# EAGLE library part ATMEGA328-1 (library IC_Embedded)
8-bit AVR Microcontroller with 32K Bytes In-System Programmable Flash Datasheet <https://www.mouser.com/pdfdocs/Gravitech_ATMEGA328_datasheet.pdf>
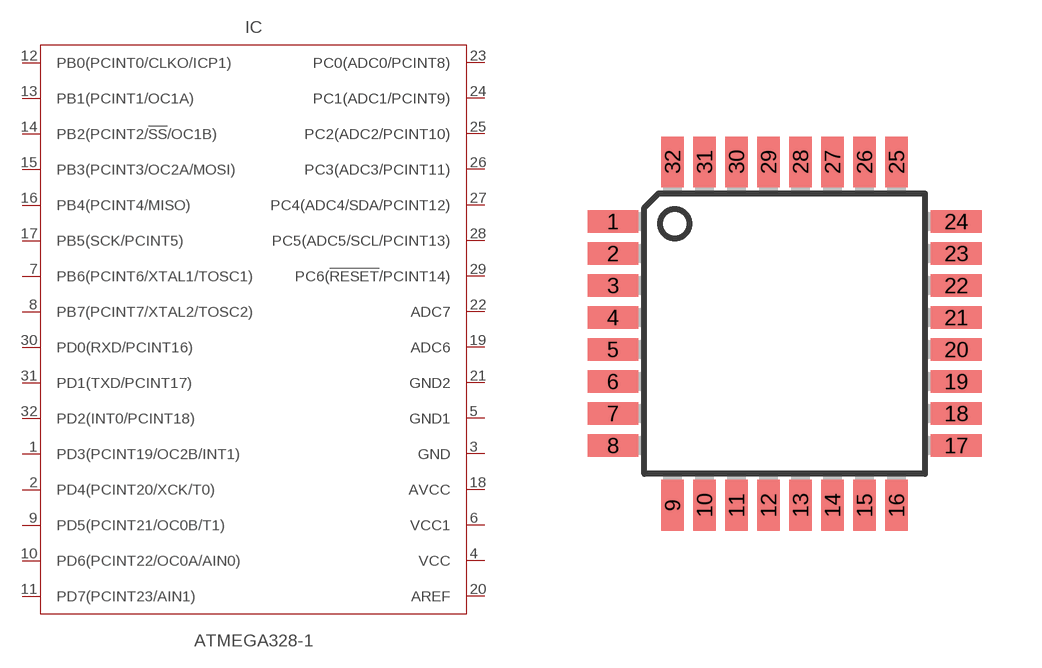
[diagram p9: symbol with the pads of TQFP32-08; footprint TQFP32-08]

Designator prefix IC

## ATMEGA328-1_TQFP (CATEGORY: IC_Embedded; MANUFACTURER: Microchip Technologies; MPN: ATmega328P-AU; OPERATING_TEMP: –40 to +105°C; PART_STATUS: Active; SUB-CATEGORY: Microcontroller; VALUE: ATMEGA328P)  [TQFP32-08]
1  PD3(PCINT19/OC2B/INT1)
2  PD4(PCINT20/XCK/T0)
3  GND  pas
4  VCC  pwr
5  GND1  pas
6  VCC1  pwr
7  PB6(PCINT6/XTAL1/TOSC1)  in
8  PB7(PCINT7/XTAL2/TOSC2)  in
9  PD5(PCINT21/OC0B/T1)
10  PD6(PCINT22/OC0A/AIN0)
11  PD7(PCINT23/AIN1)
12  PB0(PCINT0/CLKO/ICP1)
13  PB1(PCINT1/OC1A)
14  PB2(PCINT2/!SS!/OC1B)
15  PB3(PCINT3/OC2A/MOSI)
16  PB4(PCINT4/MISO)
17  PB5(SCK/PCINT5)
18  AVCC  pwr
19  ADC6
20  AREF  pwr
21  GND2  pas
22  ADC7
23  PC0(ADC0/PCINT8)
24  PC1(ADC1/PCINT9)
25  PC2(ADC2/PCINT10)
26  PC3(ADC3/PCINT11)
27  PC4(ADC4/SDA/PCINT12)
28  PC5(ADC5/SCL/PCINT13)
29  PC6(!RESET!/PCINT14)
30  PD0(RXD/PCINT16)
31  PD1(TXD/PCINT17)
32  PD2(INT0/PCINT18)

## Footprint TQFP32-08 (pad centres in mm)
Thin Plasic Quad Flat Package Grid 0.8 mm
smd 1.27 x 0.559: 1 -4.293,2.8; 2 -4.293,2; 3 -4.293,1.2; 4 -4.293,0.4; 5 -4.293,-0.4; 6 -4.293,-1.2; 7 -4.293,-2; 8 -4.293,-2.8; 17 4.293,-2.8; 18 4.293,-2; 19 4.293,-1.2; 20 4.293,-0.4; 21 4.293,0.4; 22 4.293,1.2; 23 4.293,2; 24 4.293,2.8
smd 0.559 x 1.27: 9 -2.8,-4.293; 10 -2,-4.293; 11 -1.2,-4.293; 12 -0.4,-4.293; 13 0.4,-4.293; 14 1.2,-4.293; 15 2,-4.293; 16 2.8,-4.293; 25 2.8,4.293; 26 2,4.293; 27 1.2,4.293; 28 0.4,4.293; 29 -0.4,4.293; 30 -1.2,4.293; 31 -2,4.293; 32 -2.8,4.293